# EAGLE library part TPS795XX (library xess)
Linear voltage regulator
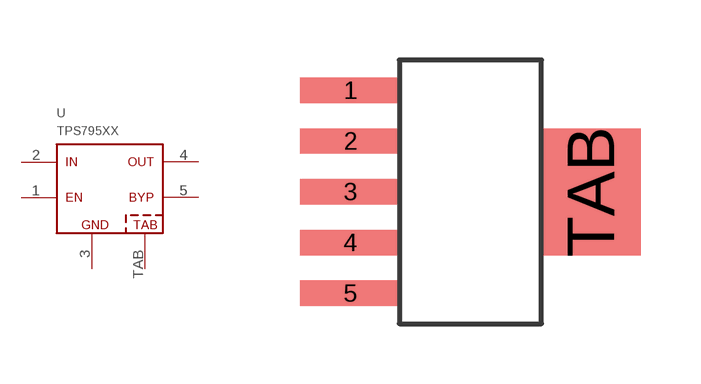
[diagram p39: symbol with the pads of SOT223-5; footprint SOT223-5]

Designator prefix U

## TPS795XX  [SOT223-5]
1  1  in
2  2  in
3  3  pwr
4  4  pwr
5  5  out
TAB  TAB  in

## Footprint SOT223-5 (pad centres in mm)
smd 2.54 x 0.635: 1 0,5.08; 2 0,3.81; 3 0,2.54; 4 0,1.27; 5 0,0
smd 2.54 x 3.175: TAB 5.994,2.54